# Altium footprint library smartmcu.PcbLib: 17 footprints (part 1 of 2)
Each footprint in its own frame and in the unit in brackets; x right, y up, seen from the top. Pads: shape width x height; smd on the part's side, far side on the other; paste and mask are expansions set on the pad; w line width, h text height; cw(c..) or ccw(c..) is an arc to the next point about the centre after c.
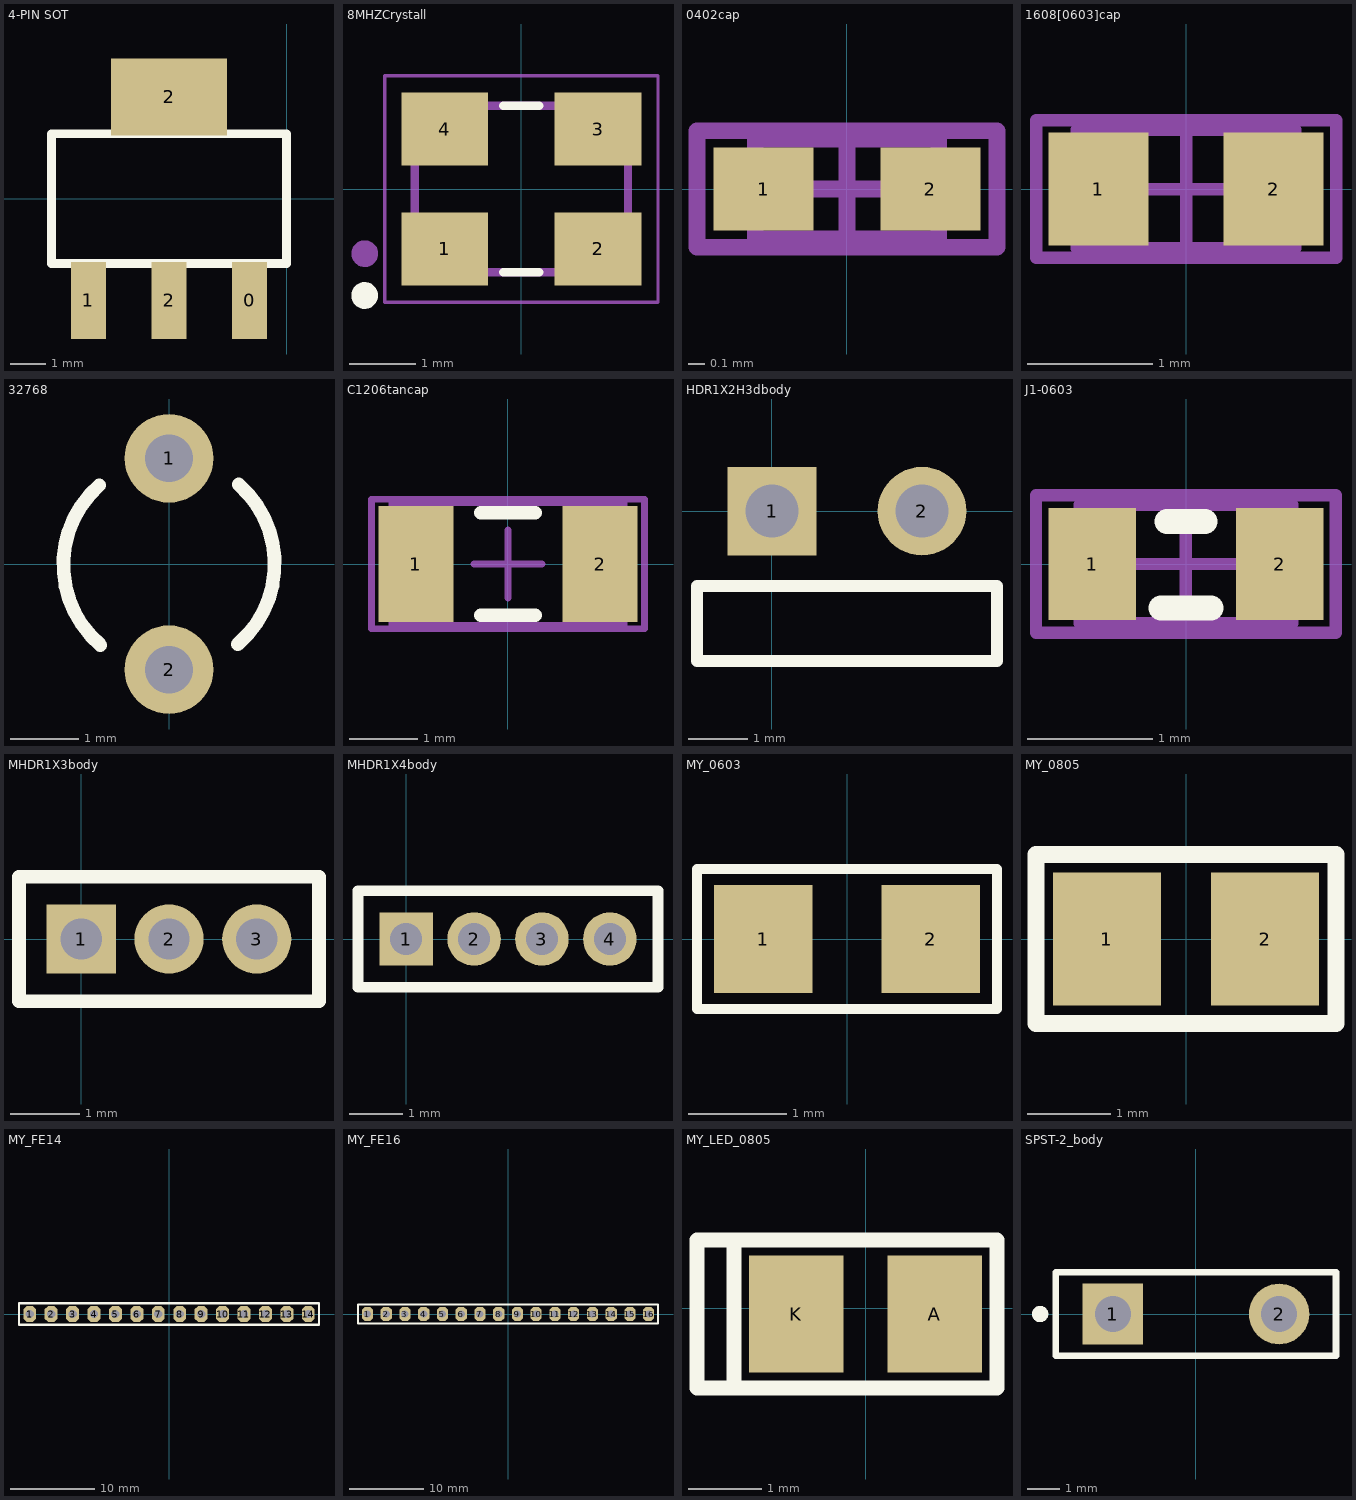
[diagram p0: the footprints below, top view; thin cyan lines are the x and y axes]

## 4-PIN SOT [mm]
pads (4):
  rect 1x2.2 smd: 0(-1.05,-2.9) 1(-5.65,-2.9) 2(-3.35,-2.9)
  rect 3.3x2.2 smd: 2(-3.35,2.9)
Top Overlay:
  lines w0.254: -6.7,-1.85 0,-1.85 0,1.85 -6.7,1.85 -6.7,-1.85
3D body "User Library-AMS1117.step": height 1.61, standoff -0.25, extent -6.604,-3.246 -0.104,3.754

## 8MHZCrystall [mm]
pads (4):
  rect 1.3x1.1 smd: 1(-1.15,-0.9) 2(1.15,-0.9) 3(1.15,0.9) 4(-1.15,0.9)
Top Overlay:
  circle w0.2: c-2.352,-1.598 r0.1
  lines w0.127: -0.27,-1.25 0.27,-1.25 ; -0.27,1.25 0.27,1.25
Mechanical 13:
  circle w0.2: c-2.35,-0.97 r0.1
  lines w0.127: -1.6,-1.25 1.6,-1.25 1.6,1.25 -1.6,1.25 -1.6,-1.25
Mechanical 15:
  lines w0.05: -2.05,-1.7 2.05,-1.7 2.05,1.7 -2.05,1.7 -2.05,-1.7
3D body "User Library-IQXC-42.step": height 0.49, standoff 0, extent -0.949,-0.8 1.051,0.8

## 0402cap [mm]
pads (2):
  rect 0.6x0.5 smd: 1(-0.5,0) 2(0.5,0)
Mechanical 13:
  lines w0.1: -0.55,-0.3 -0.55,0.3 0.55,0.3 0.55,-0.3 -0.55,-0.3
Mechanical 15:
  lines w0.1: -0.3,0 0.3,0 ; 0,-0.3 0,0.3 ; -0.9,-0.35 -0.9,0.35 0.9,0.35 0.9,-0.35 -0.9,-0.35
3D body "User Library-Chip Cap_MLCC_0402 (1005).step": height 0.51, standoff 0.01, extent -0.5,-0.254 0.5,0.246

## 1608[0603]cap [mm]
pads (2):
  rect 0.8x0.9 smd: 1(-0.7,0) 2(0.7,0)
Mechanical 13:
  lines w0.1: -0.875,-0.475 0.875,-0.475 0.875,0.475 -0.875,0.475 -0.875,-0.475
Mechanical 15:
  lines w0.1: -0.475,0 0.475,0 ; 0,-0.475 0,0.475 ; -1.2,-0.55 1.2,-0.55 1.2,0.55 -1.2,0.55 -1.2,-0.55
3D body "User Library-CAPC1608X09.step": height 0.9, standoff 0, extent -0.775,-0.4 0.825,0.4

## 32768 [mm]
pads (2):
  round 1.3 hole 0.7: 1(0,1.55) 2(0,-1.55)
Top Overlay:
  lines w0.2: -1.022,1.155 ccw(c0,-0.01) -1.006,-1.189 ; 1.006,-1.179 ccw(c0,0) 1.022,1.165
3D body "User Library-Crystal TH.step": height 9.54, standoff -1.23, extent -1.625,-1.753 1.575,1.697

## C1206tancap [mm]
pads (2):
  rect 1.1x1.7 smd: 1(-1.35,0) 2(1.35,0)
Top Overlay:
  lines w0.2: -0.4,-0.75 0.4,-0.75 ; -0.4,0.75 0.4,0.75
Mechanical 13:
  lines w0.1: -1.7,-0.9 -1.7,0.9 1.7,0.9 1.7,-0.9 -1.7,-0.9
Mechanical 15:
  lines w0.1: -0.5,0 0.5,0 ; 0,-0.5 0,0.5 ; -2,-0.95 -2,0.95 2,0.95 2,-0.95 -2,-0.95
3D body "User Library-CAP_TAN_C3216_1206.step": height 1.8, standoff 0, extent -1.7,-0.9 1.7,0.9

## HDR1X2H3dbody [mm]
pads (2):
  rect 1.5x1.5 hole 0.9: 1(0,0)
  round 1.5 hole 0.9: 2(2.54,0)
Top Overlay:
  lines w0.2: -1.27,-2.54 3.81,-2.54 3.81,-1.27 -1.27,-1.27 -1.27,-2.54
3D body "2pinp.STEP": height 11.19, standoff -3.03, extent -1.27,-3.226 3.81,3.124

## J1-0603 [mm]
pads (2):
  rect 0.7x0.9 smd: 1(-0.75,0) 2(0.75,0)
Top Overlay:
  lines w0.2: -0.2,-0.35 0.2,-0.35 ; -0.154,0.341 0.151,0.341
Mechanical 13:
  lines w0.1: -0.85,-0.475 0.85,-0.475 0.85,0.475 -0.85,0.475 -0.85,-0.475
Mechanical 15:
  lines w0.1: -0.475,0 0.475,0 ; 0,-0.475 0,0.475 ; -1.2,-0.55 1.2,-0.55 1.2,0.55 -1.2,0.55 -1.2,-0.55
3D body: height 0.9, standoff 0, extent -0.85,-0.475 0.85,0.475

## MHDR1X3body [mm]
pads (3):
  rect 1x1 hole 0.6: 1(0,0)
  round 1 hole 0.6: 2(1.27,0) 3(2.54,0)
Top Overlay:
  lines w0.2: -0.9,-0.9 -0.9,0.9 3.44,0.9 3.44,-0.9 -0.9,-0.9
3D body "3pinn.STEP": height 5, standoff -2.3, extent -0.635,-1.2 3.175,1.2

## MHDR1X4body [mm]
pads (4):
  rect 1x1 hole 0.6: 1(0,0)
  round 1 hole 0.6: 2(1.27,0) 3(2.54,0) 4(3.81,0)
Top Overlay:
  lines w0.2: -0.9,-0.9 4.71,-0.9 4.71,0.9 -0.9,0.9 -0.9,-0.9
3D body "User Library-DS1031-01-1x4P8BV3-1.STEP": height 4.61, standoff -2.59, extent -0.66,-1.219 4.42,1.281

## MY_0603 [mm]
pads (2):
  rect 1x1.1 smd: 1(-0.85,0) 2(0.85,0)
Top Overlay:
  lines w0.102: -1.524,-0.711 1.524,-0.711 1.524,0.711 -1.524,0.711 -1.524,-0.711
3D body "User Library-SMD RESISTOR-1.STEP": height 0.44, standoff -0.01, extent -0.8,-0.4 0.8,0.4

## MY_0805 [mm]
pads (2):
  rect 1.3x1.6 smd: 1(-0.95,0) 2(0.95,0)
Top Overlay:
  lines w0.203: -1.803,-1.016 -1.803,1.016 1.803,1.016 1.803,-1.016 -1.803,-1.016
3D body "User Library-SMD RESISTOR-1.STEP": height 0.59, standoff -0.01, extent -1,-0.625 1,0.625

## MY_FE14 [mm]
pads (14):
  oct 1.524x1.905 hole 1: 1(-16.51,0) 2(-13.97,0) 3(-11.43,0) 4(-8.89,0) 5(-6.35,0) 6(-3.81,0) 7(-1.27,0) 8(1.27,0) 9(3.81,0) 10(6.35,0) 11(8.89,0) 12(11.43,0) 13(13.97,0) 14(16.51,0)
Top Overlay:
  lines w0.254: -15.748,-1.27 17.78,-1.27 17.78,1.27 15.494,1.27 ; -15.494,-1.27 -17.78,-1.27 -17.78,1.27 15.875,1.27
3D body "female_header_a-bl254-eg-g14d.stp": height 8.5, standoff -3.2, extent -17.905,-1.25 17.905,1.25

## MY_FE16 [mm]
pads (16):
  oct 1.524x1.905 hole 1: 1(-19.05,0) 2(-16.51,0) 3(-13.97,0) 4(-11.43,0) 5(-8.89,0) 6(-6.35,0) 7(-3.81,0) 8(-1.27,0) 9(1.27,0) 10(3.81,0) 11(6.35,0) 12(8.89,0) 13(11.43,0) 14(13.97,0) 15(16.51,0) 16(19.05,0)
Top Overlay:
  lines w0.254: -18.288,-1.27 20.32,-1.27 20.32,1.27 18.034,1.27 ; -18.034,-1.27 -20.32,-1.27 -20.32,1.27 19.685,1.27
3D body "female_header_a-bl254-eg-g16d.stp": height 8.5, standoff -3.2, extent -20.445,-1.25 20.445,1.25

## MY_LED_0805 [mm]
pads (2):
  rect 1.3x1.6 smd: A(0.95,-0.076) K(-0.95,-0.076)
Top Overlay:
  lines w0.203: -2.311,0.94 -2.311,-1.092 -1.803,-1.092 ; -2.286,0.94 -1.803,0.94 ; -1.803,-1.092 1.803,-1.092 1.803,0.94 -1.803,0.94 ; -1.803,-1.092 -1.803,0.94
3D body "SW3dPS-LED SMD0805.STEP": height 0.86, standoff 0.01, extent -1.057,-0.483 1.006,0.424

## SPST-2_body [mm]
pads (2):
  rect 1.85x1.85 hole 1.1: 1(-2.54,0)
  round 1.85 hole 1.1: 2(2.54,0)
Top Overlay:
  circle w0.25: c-4.761,-0.001 r0.125
  lines w0.2: -4.28,-1.27 4.28,-1.27 4.28,1.27 -4.28,1.27 -4.28,-1.27
3D body "User Library-DTS-32.STEP": height 5.25, standoff -3.25, extent -3.929,-1.753 3.827,1.747